# Altium footprint library PCB - CONNECTOR - HARWIN - HARWIN M20-9740445.PcbLib: 1 footprints
Each footprint in its own frame and in the unit in brackets; x right, y up, seen from the top. Pads: shape width x height; smd on the part's side, far side on the other; paste and mask are expansions set on the pad; w line width, h text height; cw(c..) or ccw(c..) is an arc to the next point about the centre after c.
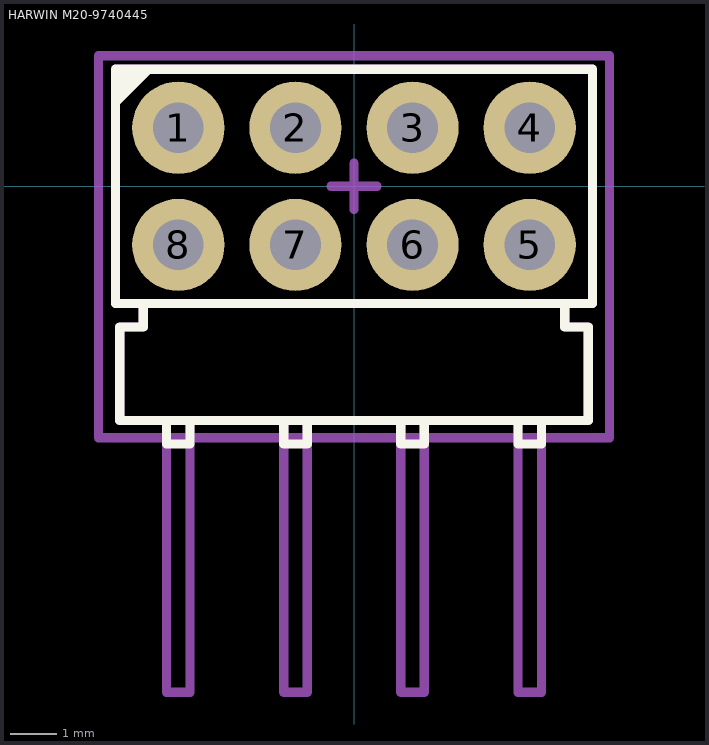
[diagram p0: the footprint, top view; thin cyan lines are the x and y axes]

## HARWIN M20-9740445 [mm] "2.54mm DIL PC TAIL PIN HEADER ASSEMBLY"
height 2.54
pads (8):
  round 2 hole 1.1: 1(-3.81,1.27) 2(-1.27,1.27) 3(1.27,1.27) 4(3.81,1.27) 5(3.81,-1.27) 6(1.27,-1.27) 7(-1.27,-1.27) 8(-3.81,-1.27)
Top Overlay:
  region: -5.19,2.57 -5.19,1.67 -4.29,2.57
  lines w0.2: -4.572,-2.54 -4.572,-3.048 -5.08,-3.048 -5.08,-5.08 5.08,-5.08 5.08,-3.048 4.572,-3.048 4.572,-2.54 ; -4.064,-5.08 -4.064,-5.588 -3.556,-5.588 -3.556,-5.08 ; -1.524,-5.08 -1.524,-5.588 -1.016,-5.588 -1.016,-5.08 ; 1.016,-5.08 1.016,-5.588 1.524,-5.588 1.524,-5.08 ; 3.556,-5.08 3.556,-5.588 4.064,-5.588 4.064,-5.08 ; -5.17,-2.54 5.17,-2.54 5.17,2.54 -5.17,2.54 -5.17,-2.54
Top Assembly:
  lines w0.2: -4.064,-2.54 -4.572,-2.54 -4.572,-3.048 -5.08,-3.048 -5.08,-5.08 -4.064,-5.08 -4.064,-10.97 -3.556,-10.97 -3.556,-5.08 -1.524,-5.08 -1.524,-10.97 -1.016,-10.97 -1.016,-5.08 1.016,-5.08 1.016,-10.97 1.524,-10.97 1.524,-5.08 3.556,-5.08 3.556,-10.97 4.064,-10.97 4.064,-5.08 5.08,-5.08 5.08,-3.048 4.572,-3.048 4.572,-2.54 4.064,-2.54 ; -0.5,0 0.5,0 ; 0,-0.5 0,0.5 ; -5.17,-2.54 -5.17,2.54 5.17,2.54 5.17,-2.54 -5.17,-2.54
Top Courtyard (Mech15):
  lines w0.2: -5.54,-5.454 -5.54,2.83 5.54,2.83 5.54,-5.454 -5.54,-5.454
3D body "M20-7830442.step": height 5, standoff -3.04, extent -5.08,-10.97 5.08,1.59